# Altium schematic symbol library BLE.SchLib: 62 symbols (part 2 of 2)
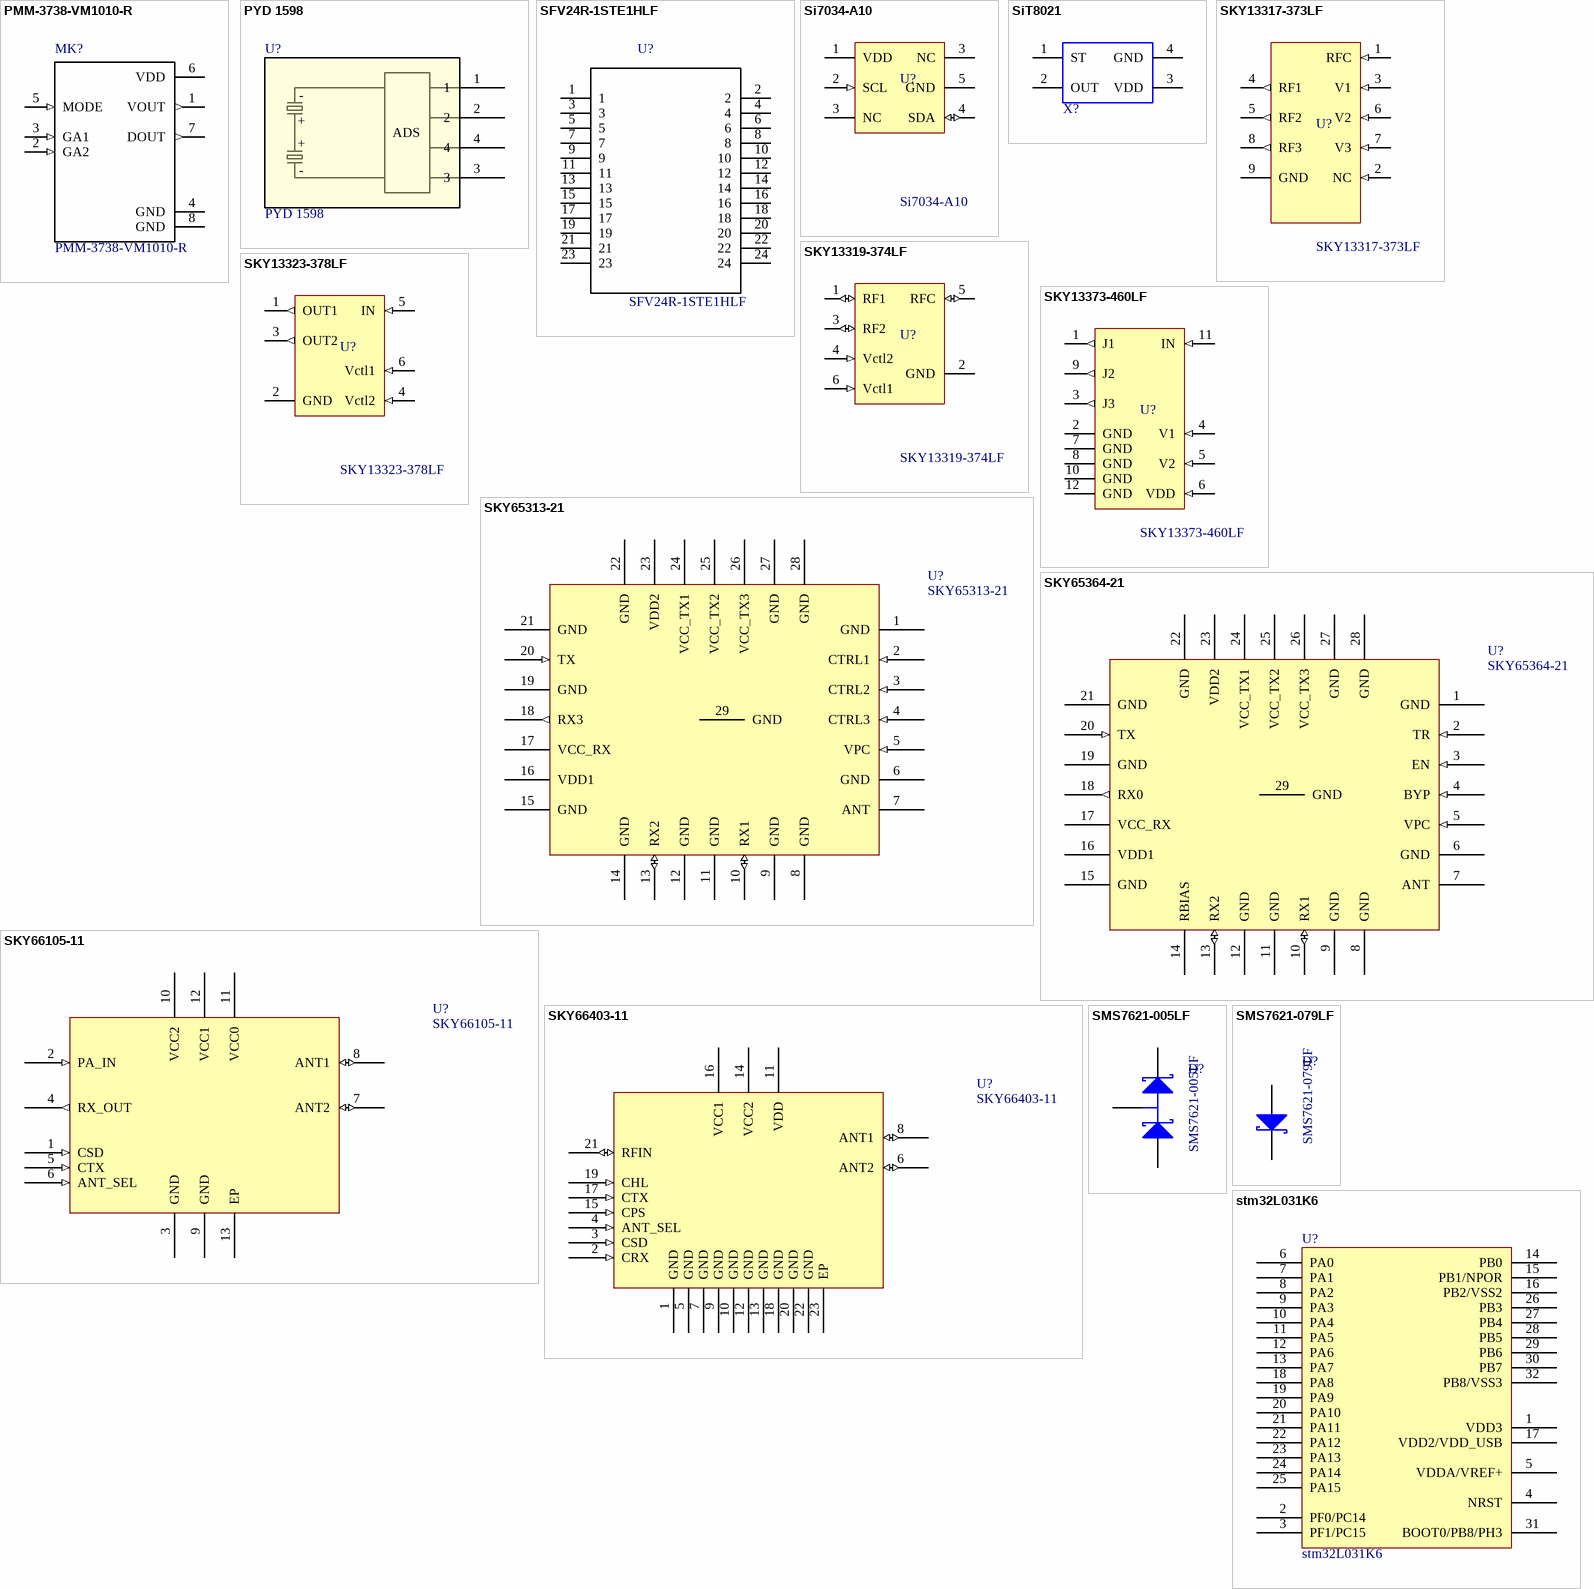
[diagram p5: symbols PMM-3738-VM1010-R to stm32L031K6]

## SKY13319-374LF
designator U?
0.1 to 3.0 GHz GaAs SPDT Switch; Manufacturer: Skyworks Solutions; Frequency: 3GHz; Impedance: 50R; Insertion Loss: 0.75dB; IIP3: 60dBm; Supplier 1: Digi-Key; Manufacturer Part Number: SKY13319-374LF; Stock 1: 4714; Pricing 1: 1=2.12, 10=1.905, 25=1.7972, 100=1.5313, 250=1.43788, 500=1.25814, 1000=1.04246 (USD); Number of Pins: 6; Min Operating Temperature: -40°C; Max Operating Temperature: 85°C; Package Quantity: 1; Packaging: Tape and Reel; Throw Configuration: SPDT; Radiation Hardening: No; ComponentLink1URL: https://www.verical.com/server-webapp/html/getDatasheet?partID=660510&src-supplier=Verical; ComponentLink1Description: https://www.verical.com/server-webapp/html/getDatasheet?partID=660510&src-supplier=Verical; ComponentLink2URL: https://media.digikey.com/pdf/Data%20Sheets/Skyworks%20PDFs/ProductSelectionGuide.pdf?src-supplier=Digi-Key; ComponentLink2Description: https://media.digikey.com/pdf/Data%20Sheets/Skyworks%20PDFs/ProductSelectionGuide.pdf?src-supplier=Digi-Key; Supplier Part Number 1: 863-1057-1-ND
footprint SKY13319-374LF
pins: 1 RF1 (io), 2 GND (power), 3 RF2 (io), 4 Vctl2 (in), 5 RFC (io), 6 Vctl1 (in)

## SKY13323-378LF
designator U?
0.1 to 3.0 GHz GaAs SPDT Switch; Manufacturer: Skyworks Solutions; Frequency: 100MHz; Impedance: 50R; Insertion Loss: 0.35dB; Turn-Off Delay Time: 100ns; P1dB: 27dBm; Max Frequency: 3GHz; IIP3: 50dBm; Supplier 1: Digi-Key; Manufacturer Part Number: SKY13323-378LF; Stock 1: 42407; Pricing 1: 1=1.43, 10=1.282, 100=0.9997, 500=0.8259, 1000=0.652 (USD); Case/Package: QFN; Min Operating Temperature: -40°C; Max Operating Temperature: 85°C; Package Quantity: 3000; Packaging: Tape and Reel; Turn-On Delay Time: 100ns; Throw Configuration: SPDT; Lead Free: Lead Free; ComponentLink1URL: http://www.mouser.com/ds/2/472/201080E-33716.pdf; ComponentLink1Description: http://www.mouser.com/ds/2/472/201080E-33716.pdf; ComponentLink2URL: http://www.skyworksinc.com/downloads/literature/Wireless_Infrastructure_Solutions.pdf; ComponentLink2Description: http://www.skyworksinc.com/downloads/literature/Wireless_Infrastructure_Solutions.pdf; ComponentLink3URL: http://www.skyworksinc.com/uploads/documents/201080E.pdf; ComponentLink3Description: http://www.skyworksinc.com/uploads/documents/201080E.pdf; Supplier Part Number 1: 683-1334-1-ND
pins: 1 OUT1 (out), 2 GND (power), 3 OUT2 (out), 4 Vctl2 (in), 5 IN (in), 6 Vctl1 (in)

## SKY13373-460LF
designator U?
IC RF SWITCH SP3T 6GHZ 12QFN; Manufacturer: Skyworks Solutions; Frequency: 100MHz; Impedance: 50R; Insertion Loss: 0.8dB; Turn-Off Delay Time: 1500ns; IIP3: 70dBm; Supplier 1: Digi-Key; Manufacturer Part Number: SKY13373-460LF; Stock 1: 4383; Pricing 1: 1=1.2, 10=1.076, 100=0.8386, 500=0.6928, 1000=0.5469 (USD); Case/Package: QFN; Min Operating Temperature: -40°C; Max Operating Temperature: 85°C; Packaging: Tape and Reel; Package Quantity: 3000; Turn-On Delay Time: 1500ns; Throw Configuration: SP3T; ComponentLink1URL: http://www.mouser.com/ds/2/472/SKY13373_460LF_201264N-1131991.pdf; ComponentLink1Description: http://www.mouser.com/ds/2/472/SKY13373_460LF_201264N-1131991.pdf; Supplier Part Number 1: 863-1768-1-ND
footprint SKY13373-460
pins: 1 J1 (out), 2 GND (power), 3 J3 (out), 4 V1 (in), 5 V2 (in), 6 VDD (in), 7 GND (power), 8 GND (power), 9 J2 (out), 10 GND (power), 11 IN (in), 12 GND (power)

## SKY65313-21
designator U?
900 MHz Transmit/Receive Front-End Module; Manufacturer: Skyworks Solutions; Manufacturer Part Number: SKY65313-21; Digi-Key Part Number: SKY65313-21CT-ND; Supplier 1: Mouser; Stock 1: 325; Pricing 1: 1=2.95, 10=2.63, 50=2.37, 100=2.16, 1000=1.47, 10000=1.28 (USD); Supplier Part Number 1: 873-SKY65313-21
footprint SKY65313-21
pins: 1 GND (power), 2 CTRL1 (in), 3 CTRL2 (in), 4 CTRL3 (in), 5 VPC (in), 6 GND (power), 7 ANT, 8 GND (power), 9 GND (power), 10 RX1 (io), 11 GND (power), 12 GND (power), 13 RX2 (io), 14 GND (power), 15 GND (power), 16 VDD1 (power), 17 VCC_RX (power), 18 RX3 (out), 19 GND (power), 20 TX (in), 21 GND (power), 22 GND (power), 23 VDD2 (power), 24 VCC_TX1 (power), 25 VCC_TX2 (power), 26 VCC_TX3 (power), 27 GND (power), 28 GND (power), 29 GND (power)

## SKY65364-21
designator U?
900 MHz Transmit/Receive Front-End Module; Manufacturer: Skyworks Solutions; Frequency: 900MHz; Supplier 1: Digi-Key; Manufacturer Part Number: SKY65364-21; Stock 1: 3421; Pricing 1: 1=3.52, 10=3.142, 25=2.828, 100=2.5765, 250=2.32516, 500=2.08638, 1000=1.75959 (USD); Case/Package: SMD/SMT; Packaging: Tape and Reel; ComponentLink1URL: http://www.mouser.com/ds/2/472/201576B-876359.pdf?src-supplier=Mouser; ComponentLink1Description: http://www.mouser.com/ds/2/472/201576B-876359.pdf?src-supplier=Mouser; Supplier Part Number 1: 863-1794-1-ND
footprint SKY65313-21
pins: 1 GND (power), 2 TR (in), 3 EN (in), 4 BYP (in), 5 VPC (in), 6 GND (power), 7 ANT, 8 GND (power), 9 GND (power), 10 RX1 (io), 11 GND (power), 12 GND (power), 13 RX2 (io), 14 RBIAS, 15 GND (power), 16 VDD1 (power), 17 VCC_RX (power), 18 RX0 (out), 19 GND (power), 20 TX (in), 21 GND (power), 22 GND (power), 23 VDD2 (power), 24 VCC_TX1 (power), 25 VCC_TX2 (power), 26 VCC_TX3 (power), 27 GND (power), 28 GND (power), 29 GND (power)

## SKY66105-11
designator U?
902 to 931 MHz High-Power RF Front-End; Manufacturer: Skyworks Solutions; Supplier 1: Digi-Key; Manufacturer Part Number: SKY66105-11; Stock 1: 3990; Pricing 1: 1=5.25, 10=4.686, 25=4.2172, 100=3.8422, 250=3.46736, 500=3.11126, 1000=2.62395 (USD); ComponentLink1URL: http://datasheet.octopart.com/SKY66105-11-Skyworks-Solutions-datasheet-98418252.pdf?src-supplier=RFMW; ComponentLink1Description: http://datasheet.octopart.com/SKY66105-11-Skyworks-Solutions-datasheet-98418252.pdf?src-supplier=RFMW; ComponentLink2URL: http://datasheet.octopart.com/SKY66105-11-Skyworks-Solutions-datasheet-62330109.pdf?src-supplier=Component+Distributors+Inc.; ComponentLink2Description: http://datasheet.octopart.com/SKY66105-11-Skyworks-Solutions-datasheet-62330109.pdf?src-supplier=Component+Distributors+Inc.; Supplier Part Number 1: 863-1943-1-ND
pins: 1 CSD (in), 2 PA_IN (in), 3 GND (power), 4 RX_OUT (out), 5 CTX (in), 6 ANT_SEL (in), 7 ANT2 (io), 8 ANT1 (io), 9 GND (power), 10 VCC2 (power), 11 VCC0 (power), 12 VCC1 (power), 13 EP (power)

## SKY66403-11
designator U?
2.4 GHz BLE Front-End Module; Manufacturer: Skyworks Solutions; Frequency: 2.48GHz; Supplier 1: Digi-Key; Manufacturer Part Number: SKY66403-11; Stock 1: 9599; Pricing 1: 1=3.09, 10=2.79, 25=2.4912, 100=2.242, 250=1.99292, 500=1.74378, 1000=1.44485 (USD); Case/Package: SMD/SMT; Packaging: Cut Tape; Supplier Part Number 1: 863-1946-1-ND
footprint SKY66403-11
pins: 1 GND (power), 2 CRX (in), 3 CSD (in), 4 ANT_SEL (in), 5 GND (power), 6 ANT2 (io), 7 GND (power), 8 ANT1 (io), 9 GND (power), 10 GND (power), 11 VDD (power), 12 GND (power), 13 GND (power), 14 VCC2 (power), 15 CPS (in), 16 VCC1 (power), 17 CTX (in), 18 GND (power), 19 CHL (in), 20 GND (power), 21 RFIN (io), 22 GND (power), 23 EP (power)

## SMS7621-005LF
designator D?
RF Diode Schottky - 1 Pair Series Connection 2V 50mA 75mW SOT-23-3; Manufacturer: Skyworks Solutions; Forward Voltage: 320mV; Forward Current: 1mA; Supplier 1: Digi-Key; Manufacturer Part Number: SMS7621-005LF; Stock 1: 141354; Pricing 1: 1=0.76, 10=0.673, 100=0.516, 500=0.40788, 1000=0.3263 (USD); Mount: Surface Mount; Case/Package: SOT-23; Number of Pins: 3; Min Operating Temperature: -65°C; Max Operating Temperature: 150°C; Max Power Dissipation: 75mW; Packaging: Tape and Reel; Package Quantity: 1; Max Current Rating: 50mA; Reverse Voltage (DC): 2V; Termination: SMD/SMT; Max Reverse Voltage (DC): 2V; Radiation Hardening: No; REACH SVHC: Unknown; ComponentLink1URL: http://www.farnell.com/datasheets/1885365.pdf; ComponentLink1Description: http://www.farnell.com/datasheets/1885365.pdf; ComponentLink2URL: https://www.verical.com/server-webapp/html/getDatasheet?partID=660773; ComponentLink2Description: https://www.verical.com/server-webapp/html/getDatasheet?partID=660773; Supplier Part Number 1: 863-1118-1-ND
footprint SOT23 - N (SOT23, 3-Leads, Body 2.9x1.3mm, Pitch 0.95mm, Lead Span 2.3mm - Reverse Pinning, IPC Medium Density)
pins: 1 A, 2 K, 3 C

## SMS7621-079LF
designator D?
RF DIODE SCHOTTKY 1V 75MW SC79; Manufacturer: Skyworks Solutions; Forward Voltage: 320mV; Max Current Rating: 50mA; Reverse Voltage (DC): 2V; Forward Current: 1mA; Element Configuration: Single; Supplier 1: Digi-Key; Manufacturer Part Number: SMS7621-079LF; Stock 1: 46170; Pricing 1: 1=0.58, 10=0.513, 100=0.3935, 500=0.3111, 1000=0.2489 (USD); Mount: Surface Mount; Case/Package: SC; Number of Pins: 2; Contact Plating: Matte,Tin; Min Operating Temperature: -65°C; Max Operating Temperature: 150°C; Packaging: Tape and Reel; Max Power Dissipation: 75mW; Package Quantity: 1; Termination: SMD/SMT; Max Reverse Voltage (DC): 2V; Radiation Hardening: No; REACH SVHC: No SVHC; ComponentLink1URL: https://www.verical.com/server-webapp/html/getDatasheet?partID=660777; ComponentLink1Description: https://www.verical.com/server-webapp/html/getDatasheet?partID=660777; ComponentLink2URL: http://datasheet.iiic.cc/skyworks_solutions/SMS7621-079LF.pdf; ComponentLink2Description: http://datasheet.iiic.cc/skyworks_solutions/SMS7621-079LF.pdf; Supplier Part Number 1: 863-1120-1-ND
footprint SC79 (Surface Mount; Body 1.6 x 0.8 mm (LxW typ))
pins: 1 A, 2 K

## stm32L031K6
designator U?
Manufacturer: STMicroelectronics; Manufacturer Part Number: STM32L031K6T6; Core Architecture: ARM; Interface: I2C,SPI,UART; Peripherals: Brown-out Detect/Reset,POR,PWM,WDT,DMA; Memory Type: FLASH; Frequency: 32MHz; Number of I/Os: 38; Memory Size: 32KB; Oscillator Type: Internal; RAM Size: 8KB; Max Supply Voltage: 3.6V; Min Supply Voltage: 1.65V; Data Bus Width: 32b; Number of ADC Channels: 10; Supplier 1: Digi-Key; Stock 1: 2004; Pricing 1: 1=2.68, 10=2.409, 100=1.9362, 500=1.59076, 1000=1.31805 (USD); Case/Package: LQFP; Min Operating Temperature: -40°C; Max Operating Temperature: 85°C; Packaging: Tray; Package Quantity: 1500; Max Frequency: 32MHz; ComponentLink1URL: http://www.st.com/content/ccc/resource/technical/document/reference_manual/21/bd/0f/bd/1c/88/40/f0/DM00108282.pdf/files/DM00108282.pdf/jcr:content/translations/en.DM00108282.pdf?src-supplier=Digi-Key; ComponentLink1Description: http://www.st.com/content/ccc/resource/technical/document/reference_manual/21/bd/0f/bd/1c/88/40/f0/DM00108282.pdf/files/DM00108282.pdf/jcr:content/translations/en.DM00108282.pdf?src-supplier=Digi-Key; Supplier Part Number 1: 497-17486-ND
footprint stm32L0_LQFP32 (LQFP32 Recommended ,32 Pin MCU Size,7x7mm, Pitch, 0.8mm)
pins: 1 VDD3, 2 PF0/PC14, 3 PF1/PC15, 4 NRST, 5 VDDA/VREF+, 6 PA0, 7 PA1, 8 PA2, 9 PA3, 10 PA4, 11 PA5, 12 PA6, 13 PA7, 14 PB0, 15 PB1/NPOR, 16 PB2/VSS2, 17 VDD2/VDD_USB, 18 PA8, 19 PA9, 20 PA10, 21 PA11, 22 PA12, 23 PA13, 24 PA14, 25 PA15, 26 PB3, 27 PB4, 28 PB5, 29 PB6, 30 PB7, 31 BOOT0/PB8/PH3, 32 PB8/VSS3

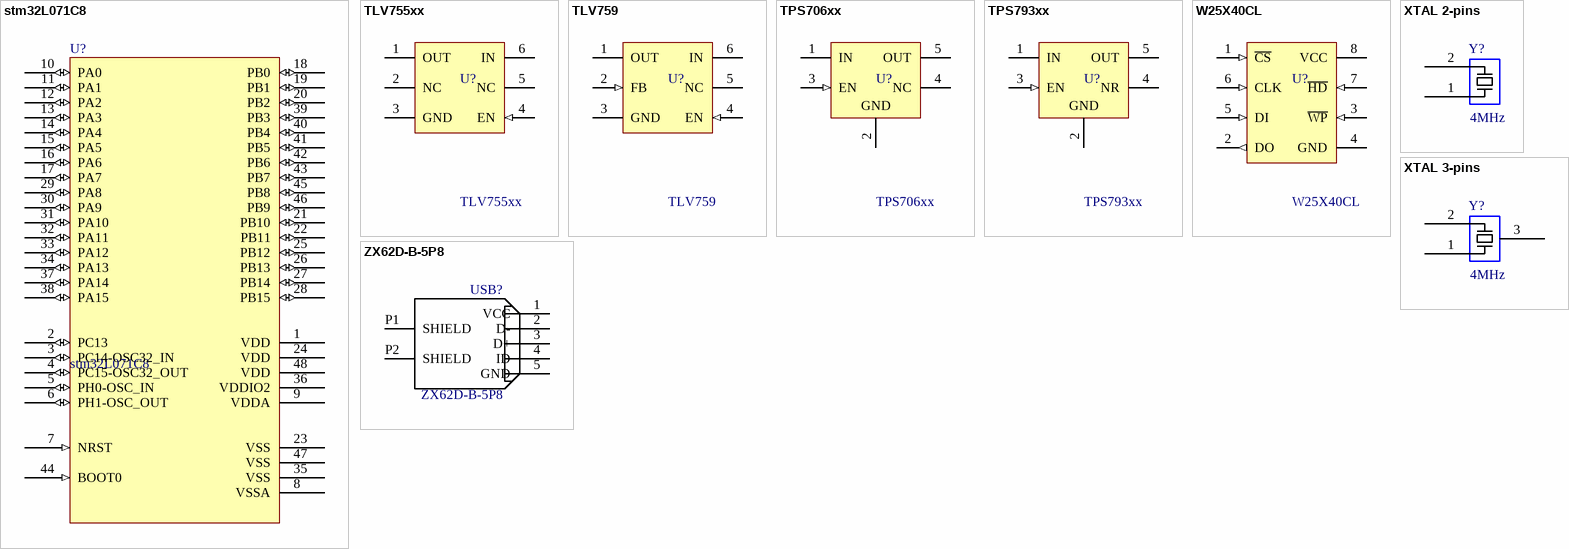
[diagram p4: symbols stm32L071C8 to ZX62D-B-5P8]

## stm32L071C8
designator U?
Manufacturer: STMicroelectronics; Manufacturer Part Number: STM32L071C8T6; Interface: I2C,SPI,IrDA,UART,USART; Peripherals: Brown-out Detect/Reset,POR,PWM,WDT,DMA; Memory Type: FLASH; Core Architecture: ARM; Frequency: 32MHz; Number of I/Os: 37; Memory Size: 64KB; Oscillator Type: Internal; Supplier 1: Digi-Key; Stock 1: 220; Pricing 1: 1=3.15, 10=2.827, 100=2.3166, 500=1.97208, 1000=1.6632 (USD); Case/Package: LQFP; Min Operating Temperature: -40°C; Max Operating Temperature: 85°C; Packaging: Tray; ComponentLink1URL: http://www.mouser.com/ds/2/389/stm32l071v8-956308.pdf?src-supplier=Mouser; ComponentLink1Description: http://www.mouser.com/ds/2/389/stm32l071v8-956308.pdf?src-supplier=Mouser; ComponentLink2URL: http://www.st.com/content/ccc/resource/technical/document/datasheet/b5/24/80/11/51/59/47/f7/DM00141136.pdf/files/DM00141136.pdf/jcr:content/translations/en.DM00141136.pdf?src-supplier=Digi-Key; ComponentLink2Description: http://www.st.com/content/ccc/resource/technical/document/datasheet/b5/24/80/11/51/59/47/f7/DM00141136.pdf/files/DM00141136.pdf/jcr:content/translations/en.DM00141136.pdf?src-supplier=Digi-Key; Supplier Part Number 1: 497-17496-ND
footprint STM32L0-LQFP48
pins: 1 VDD (power), 2 PC13 (io), 3 PC14-OSC32_IN (io), 4 PC15-OSC32_OUT (io), 5 PH0-OSC_IN (io), 6 PH1-OSC_OUT (io), 7 NRST (in), 8 VSSA (power), 9 VDDA (power), 10 PA0 (io), 11 PA1 (io), 12 PA2 (io), 13 PA3 (io), 14 PA4 (io), 15 PA5 (io), 16 PA6 (io), 17 PA7 (io), 18 PB0 (io), 19 PB1 (io), 20 PB2 (io), 21 PB10 (io), 22 PB11 (io), 23 VSS (power), 24 VDD (power), 25 PB12 (io), 26 PB13 (io), 27 PB14 (io), 28 PB15 (io), 29 PA8 (io), 30 PA9 (io), 31 PA10 (io), 32 PA11 (io), 33 PA12 (io), 34 PA13 (io), 35 VSS (power), 36 VDDIO2 (power), 37 PA14 (io), 38 PA15 (io), 39 PB3 (io), 40 PB4 (io), 41 PB5 (io), 42 PB6 (io), 43 PB7 (io), 44 BOOT0 (in), 45 PB8 (io), 46 PB9 (io), 47 VSS (power), 48 VDD (power)

## TLV755xx
designator U?
TLV755P 500-mA, Low IQ, Small Size, Low Dropout Regulator; Manufacturer: Texas Instruments; Output Type: Fixed; Output Configuration: Positive; Number of Regulators: 1; Max Input Voltage: 5.5V; Dropout Voltage: 238mV; Output Current: 500mA; Quiescent Current: 31uA; Power Supply Rejection Ratio (PSRR): 52dB; Supplier 1: Digi-Key; Manufacturer Part Number: *; Pricing 1: 1=0.73, 10=0.64, 100=0.4559, 500=0.3686, 1000=0.2813 (USD); Mount: Surface Mount; Min Operating Temperature: -40°C; Max Operating Temperature: 125°C; Packaging: Tape and Reel; Min Output Voltage: *; Max Output Voltage: *; ComponentLink1URL: http://www.ti.com/lit/gpn/tlv755p?src-supplier=Digi-Key; ComponentLink1Description: http://www.ti.com/lit/gpn/tlv755p?src-supplier=Digi-Key; Digi-Key Part Number: *
footprint TI-WSON6_2x2
pins: 1 OUT (power) "Regulated output voltage pin. A small 1-uF ceramic capacitor is needed from this pin to ground to assure stability.See Input and Output Capacitor Requirements in the Application Information section for more details.", 2 NC, 3 GND (power) "Feedback pin (FB) for adjustable versions", 4 EN (in) "Driving the enable pin (EN) over 1.2V turns on the regulator. Driving this pin below 0.4V puts the regulator into shutdown mode, reducing operating current to 18nA typical.", 5 NC, 6 IN (power) "Input pin. A small capacitor is needed from this pin to ground to assure stability. Typical input capacitor = 1.0uF. Both input and output capacitor grounds should be tied back to the IC ground with no significant impedance (See Datasheet)"

## TLV759
designator U?
TLV759P 1-A High Accuracy Adjustable LDO in a Small Size Package; Manufacturer: Texas Instruments; Manufacturer Part Number: TLV75901PDRVR; Supplier 1: Digi-Key; Stock 1: 2919; Pricing 1: 1=0.93, 10=0.832, 100=0.6063, 500=0.5076, 1000=0.3948 (USD); Supplier Part Number 1: 296-TLV75901PDRVRCT-ND
footprint TI-WSON6_2x2
pins: 1 OUT (power) "Regulated output voltage pin. A small 1-uF ceramic capacitor is needed from this pin to ground to assure stability.See Input and Output Capacitor Requirements in the Application Information section for more details.", 2 FB (in), 3 GND (power) "Feedback pin (FB) for adjustable versions", 4 EN (in) "Driving the enable pin (EN) over 1.2V turns on the regulator. Driving this pin below 0.4V puts the regulator into shutdown mode, reducing operating current to 18nA typical.", 5 NC, 6 IN (power) "Input pin. A small capacitor is needed from this pin to ground to assure stability. Typical input capacitor = 1.0uF. Both input and output capacitor grounds should be tied back to the IC ground with no significant impedance (See Datasheet)"

## TPS706xx
designator U?
Linear Voltage Regulator IC Positive Fixed 1 Output 150mA SOT-23-5; Manufacturer: Texas Instruments; Manufacturer Part Number: TPS706xxDBVT; Number of Regulators: 1; Min Current Limit: 200mA; Quiescent Current: 1.3uA; Dropout Voltage: 245mV; Min Input Voltage: 2.7V; Max Input Voltage: 6.5V; Accuracy: 2%; ComponentLink3URL: http://www.ti.com/litv/pdf/mpds123d; ComponentLink1Description: Manufacturer URL; ComponentLink2URL: http://www.ti.com/general/docs/lit/getliterature.tsp?genericPartNumber=TPS78001&fileType=pdf; ComponentLink3Description: Package Specification; ComponentLink1URL: http://www.ti.com/; ComponentLink2Description: Datasheet; Mount: Surface Mount; Case/Package: SOT-23-5; Number of Pins: 5; Contact Plating: Gold; Min Operating Temperature: -40°C; Max Operating Temperature: 125°C; Packaging: Cut Tape; Output Voltage: *; Output Current: 150mA; Output Type: Fixed; Polarity: Positive; Number of Outputs: 1; Max Output Current: 150mA; Lead Free: Lead Free; REACH SVHC: No SVHC; Digi-Key Part Number: *
footprint TI-DDC5_M (SOT23, 5-Leads, Body 2.9x1.6mm, Pitch 0.95mm, IPC Low Density)
pins: 1 IN (power) "Input pin. A small capacitor is needed from this pin to ground to assure stability. Typical input capacitor = 1.0uF. Both input and output capacitor grounds should be tied back to the IC ground with no significant impedance (See Datasheet)", 2 GND (power) "Ground pin.", 3 EN (in) "Driving the enable pin (EN) over 1.2V turns on the regulator. Driving this pin below 0.4V puts the regulator into shutdown mode, reducing operating current to 18nA typical.", 4 NC "Feedback pin (FB) for adjustable versions", 5 OUT (power) "Regulated output voltage pin. A small 1-uF ceramic capacitor is needed from this pin to ground to assure stability.See Input and Output Capacitor Requirements in the Application Information section for more details."

## TPS793xx
designator U?
Linear Voltage Regulator IC Positive Fixed 1 Output 150mA SOT-23-5; Manufacturer: Texas Instruments; Manufacturer Part Number: TPS79330DBVR; Output Current: 200mA; Dropout Voltage: 112mV; Number of Outputs: 1; Max Power Dissipation: 560mW; Output Voltage: 3V; Max Input Voltage: 5.5V; Min Input Voltage: 2.7V; Input Bias Current: 170uA; Min Current Limit: 285mA; Quiescent Current: 200uA; Output Voltage Accuracy: 2%; ComponentLink3URL: http://www.ti.com/litv/pdf/mpds123d; ComponentLink1Description: Manufacturer URL; ComponentLink2URL: http://www.ti.com/general/docs/lit/getliterature.tsp?genericPartNumber=TPS78001&fileType=pdf; ComponentLink3Description: Package Specification; ComponentLink1URL: http://www.ti.com/; ComponentLink2Description: Datasheet; Supplier 1: Digi-Key; Stock 1: 16041; Pricing 1: 1=0.75, 10=0.659, 100=0.5055, 500=0.39964, 1000=0.31971 (USD); Case/Package: SOT-23; Number of Pins: 5; Contact Plating: Tin,Matte; Min Operating Temperature: -40°C; Max Operating Temperature: 125°C; Packaging: Tape and Reel; Package Quantity: 1; Power Rating: 560mW; Nominal Output Voltage: 3V; Max Output Current: 200mA; Number of Regulators: 1; Polarity: Positive; Power Dissipation: 560mW; Min Output Voltage: 3V; Accuracy: 2%; Max Output Voltage: 3V; Output Type: Fixed; Length: 2.9mm; Height: 1.15mm; Width: 1.6mm; Radiation Hardening: No; REACH SVHC: No SVHC; Lead Free: Lead Free; ComponentLink4URL: http://www.farnell.com/datasheets/1877023.pdf?src-supplier=Element14; ComponentLink4Description: http://www.farnell.com/datasheets/1877023.pdf?src-supplier=Element14; Supplier Part Number 1: 296-12159-1-ND
footprint TI-DDC5_M (SOT23, 5-Leads, Body 2.9x1.6mm, Pitch 0.95mm, IPC Low Density)
pins: 1 IN (power) "Input pin. A small capacitor is needed from this pin to ground to assure stability. Typical input capacitor = 1.0uF. Both input and output capacitor grounds should be tied back to the IC ground with no significant impedance (See Datasheet)", 2 GND (power) "Ground pin.", 3 EN (in) "Driving the enable pin (EN) over 1.2V turns on the regulator. Driving this pin below 0.4V puts the regulator into shutdown mode, reducing operating current to 18nA typical.", 4 NR "Feedback pin (FB) for adjustable versions", 5 OUT (power) "Regulated output voltage pin. A small 1-uF ceramic capacitor is needed from this pin to ground to assure stability.See Input and Output Capacitor Requirements in the Application Information section for more details."

## W25X40CL
designator U?
IC FLASH 4M SPI 104MHZ 8SOIC; Manufacturer: Winbond; Manufacturer Part Number: W25X40CLUXIGTR; Interface: SPI,Serial; Supplier 1: Digi-Key; Stock 1: 49217; Pricing 1: 1=0.57, 10=0.557, 25=0.5168, 50=0.514, 100=0.4566, 250=0.45068, 500=0.44396, 1000=0.43206 (USD); Min Operating Temperature: -40°C; Max Operating Temperature: 85°C; Packaging: Tape and Reel; Memory Type: FLASH; Frequency: 104MHz; Supplier Part Number 1: W25X40CLUXIGCT-ND
footprint W25X40CL-USON
pins: 1 ~{CS} (in), 2 DO (out), 3 ~{WP} (in), 4 GND (power), 5 DI (in), 6 CLK (in), 7 ~{HD} (in), 8 VCC (power)

## XTAL 2-pins
designator Y?, comment value 4MHz  (hidden comment: XTAL)
Crystal Oscillator - [10mm x 4.5mm]; Manufacturer: Fox Electronics; Manufacturer Part Number: FC8AQCCMC4.0-T1; Digi-Key Part Number: example: 631-1033-1-ND
footprint FOX-Crystal
pins: 1 (power) "Output", 2 (power) "Output"

## XTAL 3-pins
designator Y?, comment value 4MHz  (hidden comment: XTAL)
Crystal Oscillator - [11.4mm x 4.7mm]; Manufacturer: Abracon LLC; Manufacturer Part Number: ABLSG-4.000MHZ-D2Y-T; Digi-Key Part Number: example: 535-10593-1-ND
footprint HC-49/US - 3 Lead
pins: 1 (power) "Output", 2 (power) "Output", 3 (power) "Output"

## ZX62D-B-5P8
designator USB?
SMD+DIP Micro USB; MICRO-B-SMD; Manufacturer: Hirose Electric Co Ltd; Manufacturer Part Number: ZX62-B-5PA(33); Note: USB - micro B USB 2.0 Receptacle Connector 5 Position Surface Mount, Right Angle; Value: *; Digi-Key Part Number: H125270CT-ND
footprint HRS_ZX62D-B-5P8
footprint HRS_ZX62D-B-5P
pins: 1 VCC (power), 2 D-, 3 D+, 4 ID, 5 GND (power), P1 SHIELD (power), P2 SHIELD (power)